# Altium footprint library QUAN.PcbLib: 216 footprints (part 8 of 14)
Each footprint in its own frame and in the unit in brackets; x right, y up, seen from the top. Pads: shape width x height; smd on the part's side, far side on the other; paste and mask are expansions set on the pad; w line width, h text height; cw(c..) or ccw(c..) is an arc to the next point about the centre after c.
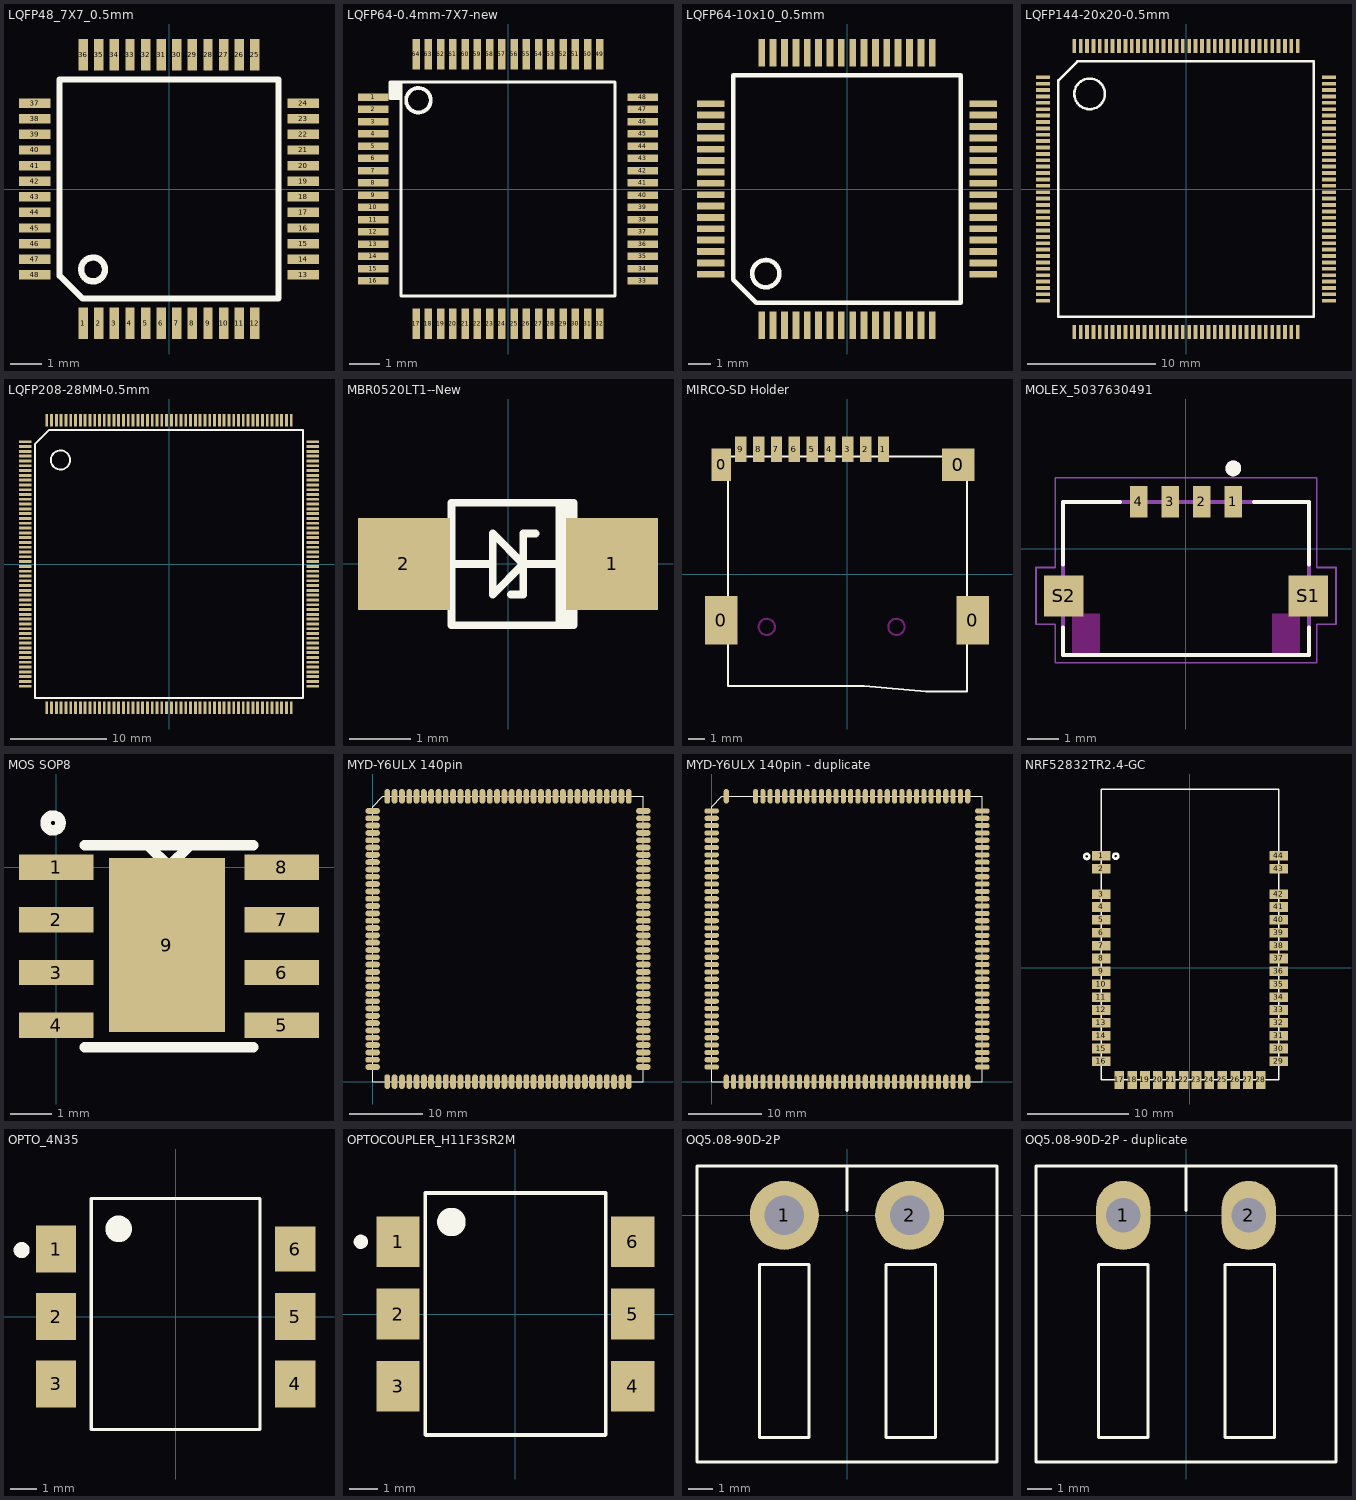
[diagram p7: the footprints below, top view; thin cyan lines are the x and y axes]

## LQFP48_7X7_0.5mm [mm] "LQFP48_7X7_0.5mm"
pads (48):
  rect 0.3x1 smd: 1(-2.75,-4.3) 2(-2.25,-4.3) 3(-1.75,-4.3) 4(-1.25,-4.3) 5(-0.75,-4.3) 6(-0.25,-4.3) 7(0.25,-4.3) 8(0.75,-4.3) 9(1.25,-4.3) 10(1.75,-4.3) 11(2.25,-4.3) 12(2.75,-4.3) 25(2.75,4.3) 26(2.25,4.3) 27(1.75,4.3) 28(1.25,4.3) 29(0.75,4.3) 30(0.25,4.3) 31(-0.25,4.3) 32(-0.75,4.3) 33(-1.25,4.3) 34(-1.75,4.3) 35(-2.25,4.3) 36(-2.75,4.3)
  rect 1x0.3 smd: 13(4.3,-2.75) 14(4.3,-2.25) 15(4.3,-1.75) 16(4.3,-1.25) 17(4.3,-0.75) 18(4.3,-0.25) 19(4.3,0.25) 20(4.3,0.75) 21(4.3,1.25) 22(4.3,1.75) 23(4.3,2.25) 24(4.3,2.75) 37(-4.3,2.75) 38(-4.3,2.25) 39(-4.3,1.75) 40(-4.3,1.25) 41(-4.3,0.75) 42(-4.3,0.25) 43(-4.3,-0.25) 44(-4.3,-0.75) 45(-4.3,-1.25) 46(-4.3,-1.75) 47(-4.3,-2.25) 48(-4.3,-2.75)
Top Overlay:
  circle w0.203: c-2.431,-2.575 r0.381
  lines w0.2: -3.5,-2.777 -3.5,3.5 3.5,3.5 3.5,-3.5 -2.77,-3.5 -3.494,-2.777

## LQFP64-0.4mm-7X7-new [mm] "LQFP64-0.4mm-7X7-new"
pads (64):
  rect 1x0.25 smd: 1(-4.4,3) 2(-4.4,2.6) 3(-4.4,2.2) 4(-4.4,1.8) 5(-4.4,1.4) 6(-4.4,1) 7(-4.4,0.6) 8(-4.4,0.2) 9(-4.4,-0.2) 10(-4.4,-0.6) 11(-4.4,-1) 12(-4.4,-1.4) 13(-4.4,-1.8) 14(-4.4,-2.2) 15(-4.4,-2.6) 16(-4.4,-3) 33(4.4,-3) 34(4.4,-2.6) 35(4.4,-2.2) 36(4.4,-1.8) 37(4.4,-1.4) 38(4.4,-1) 39(4.4,-0.6) 40(4.4,-0.2) 41(4.4,0.2) 42(4.4,0.6) 43(4.4,1) 44(4.4,1.4) 45(4.4,1.8) 46(4.4,2.2) 47(4.4,2.6) 48(4.4,3)
  rect 0.25x1 smd: 17(-3,-4.4) 18(-2.6,-4.4) 19(-2.2,-4.4) 20(-1.8,-4.4) 21(-1.4,-4.4) 22(-1,-4.4) 23(-0.6,-4.4) 24(-0.2,-4.4) 25(0.2,-4.4) 26(0.6,-4.4) 27(1,-4.4) 28(1.4,-4.4) 29(1.8,-4.4) 30(2.2,-4.4) 31(2.6,-4.4) 32(3,-4.4) 49(3,4.4) 50(2.6,4.4) 51(2.2,4.4) 52(1.8,4.4) 53(1.4,4.4) 54(1,4.4) 55(0.6,4.4) 56(0.2,4.4) 57(-0.2,4.4) 58(-0.6,4.4) 59(-1,4.4) 60(-1.4,4.4) 61(-1.8,4.4) 62(-2.2,4.4) 63(-2.6,4.4) 64(-3,4.4)
Top Overlay:
  circle w0.127: c-2.925,2.9 r0.4
  rectangle: -3.9,2.95 -3.55,3.5
  lines w0.1: -3.85,2.95 -3.5,2.95 ; -3.85,3.5 -3.5,3.5 ; -3.5,3.5 3.5,3.5 3.5,-3.5 -3.5,-3.5 -3.5,3.5

## LQFP64-10x10_0.5mm [mm] "LQFP64-10x10_0.5mm"
pads (64):
  rect 0.3x1.2 smd: 1(-3.75,-6) 2(-3.25,-6) 3(-2.75,-6) 4(-2.25,-6) 5(-1.75,-6) 6(-1.25,-6) 7(-0.75,-6) 8(-0.25,-6) 9(0.25,-6) 10(0.75,-6) 11(1.25,-6) 12(1.75,-6) 13(2.25,-6) 14(2.75,-6) 15(3.25,-6) 16(3.75,-6) 33(3.75,6) 34(3.25,6) 35(2.75,6) 36(2.25,6) 37(1.75,6) 38(1.25,6) 39(0.75,6) 40(0.25,6) 41(-0.25,6) 42(-0.75,6) 43(-1.25,6) 44(-1.75,6) 45(-2.25,6) 46(-2.75,6) 47(-3.25,6) 48(-3.75,6)
  rect 1.2x0.3 smd: 17(6,-3.75) 18(6,-3.25) 19(6,-2.75) 20(6,-2.25) 21(6,-1.75) 22(6,-1.25) 23(6,-0.75) 24(6,-0.25) 25(6,0.25) 26(6,0.75) 27(6,1.25) 28(6,1.75) 29(6,2.25) 30(6,2.75) 31(6,3.25) 32(6,3.75) 49(-6,3.75) 50(-6,3.25) 51(-6,2.75) 52(-6,2.25) 53(-6,1.75) 54(-6,1.25) 55(-6,0.75) 56(-6,0.25) 57(-6,-0.25) 58(-6,-0.75) 59(-6,-1.25) 60(-6,-1.75) 61(-6,-2.25) 62(-6,-2.75) 63(-6,-3.25) 64(-6,-3.75)
Top Overlay:
  circle w0.203: c-3.575,-3.725 r0.6
  lines w0.2: -5,-4 -5,5 5,5 5,-5 -4,-5 -5,-4

## LQFP144-20x20-0.5mm [mm] "LQFP144-20x20-0.5mm"
pads (144):
  rect 1.1x0.3 smd: 1(-11.2,8.75) 2(-11.2,8.25) 3(-11.2,7.75) 4(-11.2,7.25) 5(-11.2,6.75) 6(-11.2,6.25) 7(-11.2,5.75) 8(-11.2,5.25) 9(-11.2,4.75) 10(-11.2,4.25) 11(-11.2,3.75) 12(-11.2,3.25) 13(-11.2,2.75) 14(-11.2,2.25) 15(-11.2,1.75) 16(-11.2,1.25) 17(-11.2,0.75) 18(-11.2,0.25) 19(-11.2,-0.25) 20(-11.2,-0.75) 21(-11.2,-1.25) 22(-11.2,-1.75) 23(-11.2,-2.25) 24(-11.2,-2.75) 25(-11.2,-3.25) 26(-11.2,-3.75) 27(-11.2,-4.25) 28(-11.2,-4.75) 29(-11.2,-5.25) 30(-11.2,-5.75) 31(-11.2,-6.25) 32(-11.2,-6.75) 33(-11.2,-7.25) 34(-11.2,-7.75) 35(-11.2,-8.25) 36(-11.2,-8.75) 73(11.2,-8.75) 74(11.2,-8.25) 75(11.2,-7.75) 76(11.2,-7.25) 77(11.2,-6.75) 78(11.2,-6.25) 79(11.2,-5.75) 80(11.2,-5.25) 81(11.2,-4.75) 82(11.2,-4.25) 83(11.2,-3.75) 84(11.2,-3.25) 85(11.2,-2.75) 86(11.2,-2.25) 87(11.2,-1.75) 88(11.2,-1.25) 89(11.2,-0.75) 90(11.2,-0.25) 91(11.2,0.25) 92(11.2,0.75) 93(11.2,1.25) 94(11.2,1.75) 95(11.2,2.25) 96(11.2,2.75) 97(11.2,3.25) 98(11.2,3.75) 99(11.2,4.25) 100(11.2,4.75) 101(11.2,5.25) 102(11.2,5.75) 103(11.2,6.25) 104(11.2,6.75) 105(11.2,7.25) 106(11.2,7.75) 107(11.2,8.25) 108(11.2,8.75)
  rect 0.3x1.1 smd: 37(-8.75,-11.2) 38(-8.25,-11.2) 39(-7.75,-11.2) 40(-7.25,-11.2) 41(-6.75,-11.2) 42(-6.25,-11.2) 43(-5.75,-11.2) 44(-5.25,-11.2) 45(-4.75,-11.2) 46(-4.25,-11.2) 47(-3.75,-11.2) 48(-3.25,-11.2) 49(-2.75,-11.2) 50(-2.25,-11.2) 51(-1.75,-11.2) 52(-1.25,-11.2) 53(-0.75,-11.2) 54(-0.25,-11.2) 55(0.25,-11.2) 56(0.75,-11.2) 57(1.25,-11.2) 58(1.75,-11.2) 59(2.25,-11.2) 60(2.75,-11.2) 61(3.25,-11.2) 62(3.75,-11.2) 63(4.25,-11.2) 64(4.75,-11.2) 65(5.25,-11.2) 66(5.75,-11.2) 67(6.25,-11.2) 68(6.75,-11.2) 69(7.25,-11.2) 70(7.75,-11.2) 71(8.25,-11.2) 72(8.75,-11.2) 109(8.75,11.2) 110(8.25,11.2) 111(7.75,11.2) 112(7.25,11.2) 113(6.75,11.2) 114(6.25,11.2) 115(5.75,11.2) 116(5.25,11.2) 117(4.75,11.2) 118(4.25,11.2) 119(3.75,11.2) 120(3.25,11.2) 121(2.75,11.2) 122(2.25,11.2) 123(1.75,11.2) 124(1.25,11.2) 125(0.75,11.2) 126(0.25,11.2) 127(-0.25,11.2) 128(-0.75,11.2) 129(-1.25,11.2) 130(-1.75,11.2) 131(-2.25,11.2) 132(-2.75,11.2) 133(-3.25,11.2) 134(-3.75,11.2) 135(-4.25,11.2) 136(-4.75,11.2) 137(-5.25,11.2) 138(-5.75,11.2) 139(-6.25,11.2) 140(-6.75,11.2) 141(-7.25,11.2) 142(-7.75,11.2) 143(-8.25,11.2) 144(-8.75,11.2)
Top Overlay:
  circle w0.2: c-7.55,7.45 r1.2
  lines w0.2: -10,-10 10,-10 10,10 -8.5,10 -10,8.5 -10,-10

## LQFP208-28MM-0.5mm [mm] "LQFP208-28MM-0.5mm"
pads (208):
  rect 1.3x0.3 smd: 1(-15,12.75) 2(-15,12.25) 3(-15,11.75) 4(-15,11.25) 5(-15,10.75) 6(-15,10.25) 7(-15,9.75) 8(-15,9.25) 9(-15,8.75) 10(-15,8.25) 11(-15,7.75) 12(-15,7.25) 13(-15,6.75) 14(-15,6.25) 15(-15,5.75) 16(-15,5.25) 17(-15,4.75) 18(-15,4.25) 19(-15,3.75) 20(-15,3.25) 21(-15,2.75) 22(-15,2.25) 23(-15,1.75) 24(-15,1.25) 25(-15,0.75) 26(-15,0.25) 27(-15,-0.25) 28(-15,-0.75) 29(-15,-1.25) 30(-15,-1.75) 31(-15,-2.25) 32(-15,-2.75) 33(-15,-3.25) 34(-15,-3.75) 35(-15,-4.25) 36(-15,-4.75) 37(-15,-5.25) 38(-15,-5.75) 39(-15,-6.25) 40(-15,-6.75) 41(-15,-7.25) 42(-15,-7.75) 43(-15,-8.25) 44(-15,-8.75) 45(-15,-9.25) 46(-15,-9.75) 47(-15,-10.25) 48(-15,-10.75) 49(-15,-11.25) 50(-15,-11.75) 51(-15,-12.25) 52(-15,-12.75) 105(15,-12.75) 106(15,-12.25) 107(15,-11.75) 108(15,-11.25) 109(15,-10.75) 110(15,-10.25) 111(15,-9.75) 112(15,-9.25) 113(15,-8.75) 114(15,-8.25) 115(15,-7.75) 116(15,-7.25) 117(15,-6.75) 118(15,-6.25) 119(15,-5.75) 120(15,-5.25) 121(15,-4.75) 122(15,-4.25) 123(15,-3.75) 124(15,-3.25) 125(15,-2.75) 126(15,-2.25) 127(15,-1.75) 128(15,-1.25) 129(15,-0.75) 130(15,-0.25) 131(15,0.25) 132(15,0.75) 133(15,1.25) 134(15,1.75) 135(15,2.25) 136(15,2.75) 137(15,3.25) 138(15,3.75) 139(15,4.25) 140(15,4.75) 141(15,5.25) 142(15,5.75) 143(15,6.25) 144(15,6.75) 145(15,7.25) 146(15,7.75) 147(15,8.25) 148(15,8.75) 149(15,9.25) 150(15,9.75) 151(15,10.25) 152(15,10.75) 153(15,11.25) 154(15,11.75) 155(15,12.25) 156(15,12.75)
  rect 0.3x1.3 smd: 53(-12.75,-15) 54(-12.25,-15) 55(-11.75,-15) 56(-11.25,-15) 57(-10.75,-15) 58(-10.25,-15) 59(-9.75,-15) 60(-9.25,-15) 61(-8.75,-15) 62(-8.25,-15) 63(-7.75,-15) 64(-7.25,-15) 65(-6.75,-15) 66(-6.25,-15) 67(-5.75,-15) 68(-5.25,-15) 69(-4.75,-15) 70(-4.25,-15) 71(-3.75,-15) 72(-3.25,-15) 73(-2.75,-15) 74(-2.25,-15) 75(-1.75,-15) 76(-1.25,-15) 77(-0.75,-15) 78(-0.25,-15) 79(0.25,-15) 80(0.75,-15) 81(1.25,-15) 82(1.75,-15) 83(2.25,-15) 84(2.75,-15) 85(3.25,-15) 86(3.75,-15) 87(4.25,-15) 88(4.75,-15) 89(5.25,-15) 90(5.75,-15) 91(6.25,-15) 92(6.75,-15) 93(7.25,-15) 94(7.75,-15) 95(8.25,-15) 96(8.75,-15) 97(9.25,-15) 98(9.75,-15) 99(10.25,-15) 100(10.75,-15) 101(11.25,-15) 102(11.75,-15) 103(12.25,-15) 104(12.75,-15) 157(12.75,15) 158(12.25,15) 159(11.75,15) 160(11.25,15) 161(10.75,15) 162(10.25,15) 163(9.75,15) 164(9.25,15) 165(8.75,15) 166(8.25,15) 167(7.75,15) 168(7.25,15) 169(6.75,15) 170(6.25,15) 171(5.75,15) 172(5.25,15) 173(4.75,15) 174(4.25,15) 175(3.75,15) 176(3.25,15) 177(2.75,15) 178(2.25,15) 179(1.75,15) 180(1.25,15) 181(0.75,15) 182(0.25,15) 183(-0.25,15) 184(-0.75,15) 185(-1.25,15) 186(-1.75,15) 187(-2.25,15) 188(-2.75,15) 189(-3.25,15) 190(-3.75,15) 191(-4.25,15) 192(-4.75,15) 193(-5.25,15) 194(-5.75,15) 195(-6.25,15) 196(-6.75,15) 197(-7.25,15) 198(-7.75,15) 199(-8.25,15) 200(-8.75,15) 201(-9.25,15) 202(-9.75,15) 203(-10.25,15) 204(-10.75,15) 205(-11.25,15) 206(-11.75,15) 207(-12.25,15) 208(-12.75,15)
Top Overlay:
  circle w0.2: c-11.325,10.85 r1
  lines w0.2: -14,-14 -14,12.5 -12.5,14 14,14 14,-14 -14,-14

## MBR0520LT1--New [mm] "MBR0520LT1--New"
pads (2):
  rect 1.5x1.5 smd: 1(1.7,0) 2(-1.7,0)
Top Overlay:
  rectangle: 0.775,-1 1.075,1
  lines w0.127: -0.875,0 -0.25,0 ; 0.05,-0.5 0.25,-0.5 0.25,0.5 0.45,0.5 ; 1,0 0.25,0 ; 0.25,0 -0.25,0.5 -0.25,-0.5 0.25,0 ; -0.925,-1 1.075,-1 1.075,1 -0.925,1 -0.925,-1

## MIRCO-SD Holder [mm] "MIRCO-SD Holder"
pads (13):
  rect 2x3 smd: 0(-7.78,-2.85) 0(7.72,-2.85)
  rect 1.2x2 smd: 0(-7.78,6.75)
  rect 2x2 smd: 0(6.82,6.75)
  rect 0.7x1.6 smd: 1(2.22,7.7) 2(1.12,7.7) 3(0.02,7.7) 4(-1.08,7.7) 5(-2.18,7.7) 6(-3.28,7.7) 7(-4.38,7.7) 8(-5.48,7.7) 9(-6.58,7.7)
Top Overlay:
  lines w0.127: -7.375,-6.9 -7.375,7.25 7.375,7.25 7.375,-7.25 4.85,-7.25 1.025,-6.9 -7.375,-6.9
Keep-Out Layer:
  circle w0.127: c-4.98,-3.25 r0.5
  circle w0.127: c3.02,-3.25 r0.5

## MOLEX_5037630491 [mm]
pads (6):
  rect 0.55x1 smd: 1(1.5,1.495) 2(0.5,1.495) 3(-0.5,1.495) 4(-1.5,1.495)
  rect 1.26x1.3 smd: S1(3.875,-1.495) S2(-3.875,-1.495)
Top Overlay:
  circle w0.3: c1.5,2.545 r0.1
  lines w0.127: -3.9,-2.505 -3.9,-3.365 3.9,-3.365 3.9,-2.505 ; -3.9,-0.505 -3.9,1.485 -2.1,1.485 ; 2.15,1.485 3.9,1.485 3.9,-0.505
Keep-Out Layer:
  region: -2.735,-2.145 -3.245,-2.145 -3.245,-2.065 -2.735,-2.065
  region: -2.735,-3.315 -3.605,-3.315 -3.605,-2.145 -2.735,-2.145
  region: -2.735,-2.145 -3.245,-2.145 -3.245,-2.065 -2.735,-2.065
  region: -2.735,-3.315 -3.605,-3.315 -3.605,-2.145 -2.735,-2.145
  region: 3.245,-2.145 2.735,-2.145 2.735,-2.065 3.245,-2.065
  region: 3.605,-3.315 2.735,-3.315 2.735,-2.145 3.605,-2.145
  region: 3.245,-2.145 2.735,-2.145 2.735,-2.065 3.245,-2.065
  region: 3.605,-3.315 2.735,-3.315 2.735,-2.145 3.605,-2.145
Mechanical 13:
  circle w0.3: c1.5,2.545 r0.1
  lines w0.127: -3.9,-3.365 -3.9,1.485 3.9,1.485 3.9,-3.365 -3.9,-3.365
Mechanical 15:
  lines w0.05: -4.755,-2.395 -4.755,-0.595 -4.15,-0.595 -4.15,2.245 4.15,2.245 4.15,-0.595 4.755,-0.595 4.755,-2.395 4.15,-2.395 4.15,-3.615 -4.15,-3.615 -4.15,-2.395 -4.755,-2.395
3D body "503763-0491.stp": height 0.73, standoff -0.77, extent -4.3,-3.331 4.3,1.859

## MOS SOP8 [mil]
pads (9):
  rect 70.87x24 smd: 1(0,0) 2(0,-50) 3(0,-100) 4(0,-150) 5(214,-150) 6(214,-100) 7(214,-50) 8(214,0)
  rect 110.24x165.35 smd: 9(105,-74)
Top Overlay:
  circle w10: c-3.07,42 r7.07
  lines w10: 27,-171 187,-171 ; 27,21 187,21 ; 87,21 107,1 127,21
Top Solder:
  rectangle: 59,-166.18 154,15.82
Bottom Solder:
  rectangle: 40,-165.82 174,16.18

## MYD-Y6ULX 140pin [mm] "MYD-Y6ULX 140pin"
pads (140):
  oval 2x0.8 smd: 1(0,37) 2(0,36) 3(0,35) 4(0,34) 5(0,33) 6(0,32) 7(0,31) 8(0,30) 9(0,29) 10(0,28) 11(0,27) 12(0,26) 13(0,25) 14(0,24) 15(0,23) 16(0,22) 17(0,21) 18(0,20) 19(0,19) 20(0,18) 21(0,17) 22(0,16) 23(0,15) 24(0,14) 25(0,13) 26(0,12) 27(0,11) 28(0,10) 29(0,9) 30(0,8) 31(0,7) 32(0,6) 33(0,5) 34(0,4) 35(0,3) 36(0,2) 71(37,2) 72(37,3) 73(37,4) 74(37,5) 75(37,6) 76(37,7) 77(37,8) 78(37,9) 79(37,10) 80(37,11) 81(37,12) 82(37,13) 83(37,14) 84(37,15) 85(37,16) 86(37,17) 87(37,18) 88(37,19) 89(37,20) 90(37,21) 91(37,22) 92(37,23) 93(37,24) 94(37,25) 95(37,26) 96(37,27) 97(37,28) 98(37,29) 99(37,30) 100(37,31) 101(37,32) 102(37,33) 103(37,34) 104(37,35) 105(37,36) 106(37,37)
  oval 0.8x2 smd: 37(2,0) 38(3,0) 39(4,0) 40(5,0) 41(6,0) 42(7,0) 43(8,0) 44(9,0) 45(10,0) 46(11,0) 47(12,0) 48(13,0) 49(14,0) 50(15,0) 51(16,0) 52(17,0) 53(18,0) 54(19,0) 55(20,0) 56(21,0) 57(22,0) 58(23,0) 59(24,0) 60(25,0) 61(26,0) 62(27,0) 63(28,0) 64(29,0) 65(30,0) 66(31,0) 67(32,0) 68(33,0) 69(34,0) 70(35,0) 107(35,39) 108(34,39) 109(33,39) 110(32,39) 111(31,39) 112(30,39) 113(29,39) 114(28,39) 115(27,39) 116(26,39) 117(25,39) 118(24,39) 119(23,39) 120(22,39) 121(21,39) 122(20,39) 123(19,39) 124(18,39) 125(17,39) 126(16,39) 127(15,39) 128(14,39) 129(13,39) 130(12,39) 131(11,39) 132(10,39) 133(9,39) 134(8,39) 135(7,39) 136(6,39) 137(5,39) 138(4,39) 139(3,39) 140(2,39)
Top Overlay:
  lines w0.127: 0,0 0,37.603 1.397,39 37,39 37,0 0,0

## MYD-Y6ULX 140pin - duplicate [mm] "MYD-Y6ULX 140pin"
pads (137):
  oval 2x0.7 smd: 1(0,37) 2(0,36) 3(0,35) 4(0,34) 5(0,33) 6(0,32) 7(0,31) 8(0,30) 9(0,29) 10(0,28) 11(0,27) 12(0,26) 13(0,25) 14(0,24) 15(0,23) 16(0,22) 17(0,21) 18(0,20) 19(0,19) 20(0,18) 21(0,17) 22(0,16) 23(0,15) 24(0,14) 25(0,13) 26(0,12) 27(0,11) 28(0,10) 29(0,9) 30(0,8) 31(0,7) 32(0,6) 33(0,5) 34(0,4) 35(0,3) 36(0,2) 71(37,2) 72(37,3) 73(37,4) 74(37,5) 75(37,6) 76(37,7) 77(37,8) 78(37,9) 79(37,10) 80(37,11) 81(37,12) 82(37,13) 83(37,14) 84(37,15) 85(37,16) 86(37,17) 87(37,18) 88(37,19) 89(37,20) 90(37,21) 91(37,22) 92(37,23) 93(37,24) 94(37,25) 95(37,26) 96(37,27) 97(37,28) 98(37,29) 99(37,30) 100(37,31) 101(37,32) 102(37,33) 103(37,34) 104(37,35) 105(37,36) 106(37,37)
  oval 0.7x2 smd: 37(2,0) 38(3,0) 39(4,0) 40(5,0) 41(6,0) 42(7,0) 43(8,0) 44(9,0) 45(10,0) 46(11,0) 47(12,0) 48(13,0) 49(14,0) 50(15,0) 51(16,0) 52(17,0) 53(18,0) 54(19,0) 55(20,0) 56(21,0) 57(22,0) 58(23,0) 59(24,0) 60(25,0) 61(26,0) 62(27,0) 63(28,0) 64(29,0) 65(30,0) 66(31,0) 67(32,0) 68(33,0) 69(34,0) 70(35,0) 107(35,39) 108(34,39) 109(33,39) 110(32,39) 111(31,39) 112(30,39) 113(29,39) 114(28,39) 115(27,39) 116(26,39) 117(25,39) 118(24,39) 119(23,39) 120(22,39) 121(21,39) 122(20,39) 123(19,39) 124(18,39) 125(17,39) 126(16,39) 127(15,39) 128(14,39) 129(13,39) 130(12,39) 131(11,39) 132(10,39) 133(9,39) 134(8,39) 135(7,39) 136(6,39) 140(2,39)
Top Overlay:
  lines w0.127: 0,0 0,37.603 1.397,39 37,39 37,0 0,0

## NRF52832TR2.4-GC [mm] "NRF52832TR2.4-GC"
pads (44):
  rect 1.8x0.95 smd mask+0.102: 1(-8.75,11.05) 2(-8.75,9.78) 3(-8.75,7.28) 4(-8.75,6.01) 5(-8.75,4.74) 6(-8.75,3.47) 7(-8.75,2.2) 8(-8.75,0.93) 9(-8.75,-0.34) 10(-8.75,-1.61) 11(-8.75,-2.88) 12(-8.75,-4.15) 13(-8.75,-5.42) 14(-8.75,-6.69) 15(-8.75,-7.96) 16(-8.75,-9.23) 29(8.75,-9.23) 30(8.75,-7.96) 31(8.75,-6.69) 32(8.75,-5.42) 33(8.75,-4.15) 34(8.75,-2.88) 35(8.75,-1.61) 36(8.75,-0.34) 37(8.75,0.93) 38(8.75,2.2) 39(8.75,3.47) 40(8.75,4.74) 41(8.75,6.01) 42(8.75,7.28) 43(8.75,9.78) 44(8.75,11.05)
  rect 0.95x1.8 smd mask+0.102: 17(-6.98,-11.05) 18(-5.71,-11.05) 19(-4.44,-11.05) 20(-3.17,-11.05) 21(-1.9,-11.05) 22(-0.63,-11.05) 23(0.64,-11.05) 24(1.91,-11.05) 25(3.18,-11.05) 26(4.45,-11.05) 27(5.72,-11.05) 28(6.99,-11.05)
Top Overlay:
  circle w0.254: c-7.329,11.025 r0.254
  circle w0.254: c-10.179,11 r0.254
  lines w0.127: -8.75,-11.05 8.75,-11.05 8.75,17.65 -8.75,17.65 -8.75,-11.05

## OPTO_4N35 [mm] "OPTO_4N35"
pads (6):
  rect 1.52x1.78 smd: 1(-4.505,2.54) 2(-4.505,0) 3(-4.505,-2.54) 4(4.505,-2.54) 5(4.505,0)
  rect 1.52x1.7 smd: 6(4.505,2.54)
Top Overlay:
  circle w0.8: c-2.15,3.3 r0.1
  circle w0.4: c-5.8,2.5 r0.1
  lines w0.127: -3.175,-4.255 3.175,-4.255 3.175,4.255 3.175,4.445 -3.175,4.445 -3.175,4.255 -3.175,-4.255

## OPTOCOUPLER_H11F3SR2M [mm] "OPTOCOUPLER_H11F3SR2M"
pads (6):
  rect 1.52x1.78 smd: 1(-4.125,2.54) 2(-4.125,0) 3(-4.125,-2.54) 4(4.125,-2.54) 5(4.125,0) 6(4.125,2.54)
Top Overlay:
  circle w0.8: c-2.25,3.235 r0.1
  circle w0.3: c-5.434,2.54 r0.1
  lines w0.127: -3.175,-4.25 -3.175,-3.65 ; -3.175,-3.937 -3.175,4.255 3.175,4.255 3.175,3.65 ; -3.15,-4.255 3.15,-4.255 ; 3.175,-4.25 3.175,3.81

## OQ5.08-90D-2P [mm]
pads (2):
  round 2.8 hole 1.6: 1(-2.54,0) 2(2.54,0)
Top Overlay:
  lines w0.127: 0,0.2 0,2 ; -6.08,-10 -6.08,2 6.08,2 6.08,-10 -6.08,-10 ; -3.54,-9 -1.54,-9 -1.54,-2 -3.54,-2 -3.54,-9 ; 1.58,-9 3.58,-9 3.58,-2 1.58,-2 1.58,-9

## OQ5.08-90D-2P - duplicate [mm]
pads (2):
  oval 2.2x2.8 hole 1.4: 1(-2.54,0) 2(2.54,0)
Top Overlay:
  lines w0.127: 0,0.2 0,2 ; -6.08,-10 -6.08,2 6.08,2 6.08,-10 -6.08,-10 ; -3.54,-9 -1.54,-9 -1.54,-2 -3.54,-2 -3.54,-9 ; 1.58,-9 3.58,-9 3.58,-2 1.58,-2 1.58,-9